# EAGLE library part HTRAM8 (library Transputers)
HTRAM size-8 Board INMOS Standard Transputer Boards for T9000 series components. Source: INMOS T9000 development Tools Preliminary Datasheets 1993. Arto Kyyhkynen, artoky@dlc.fi
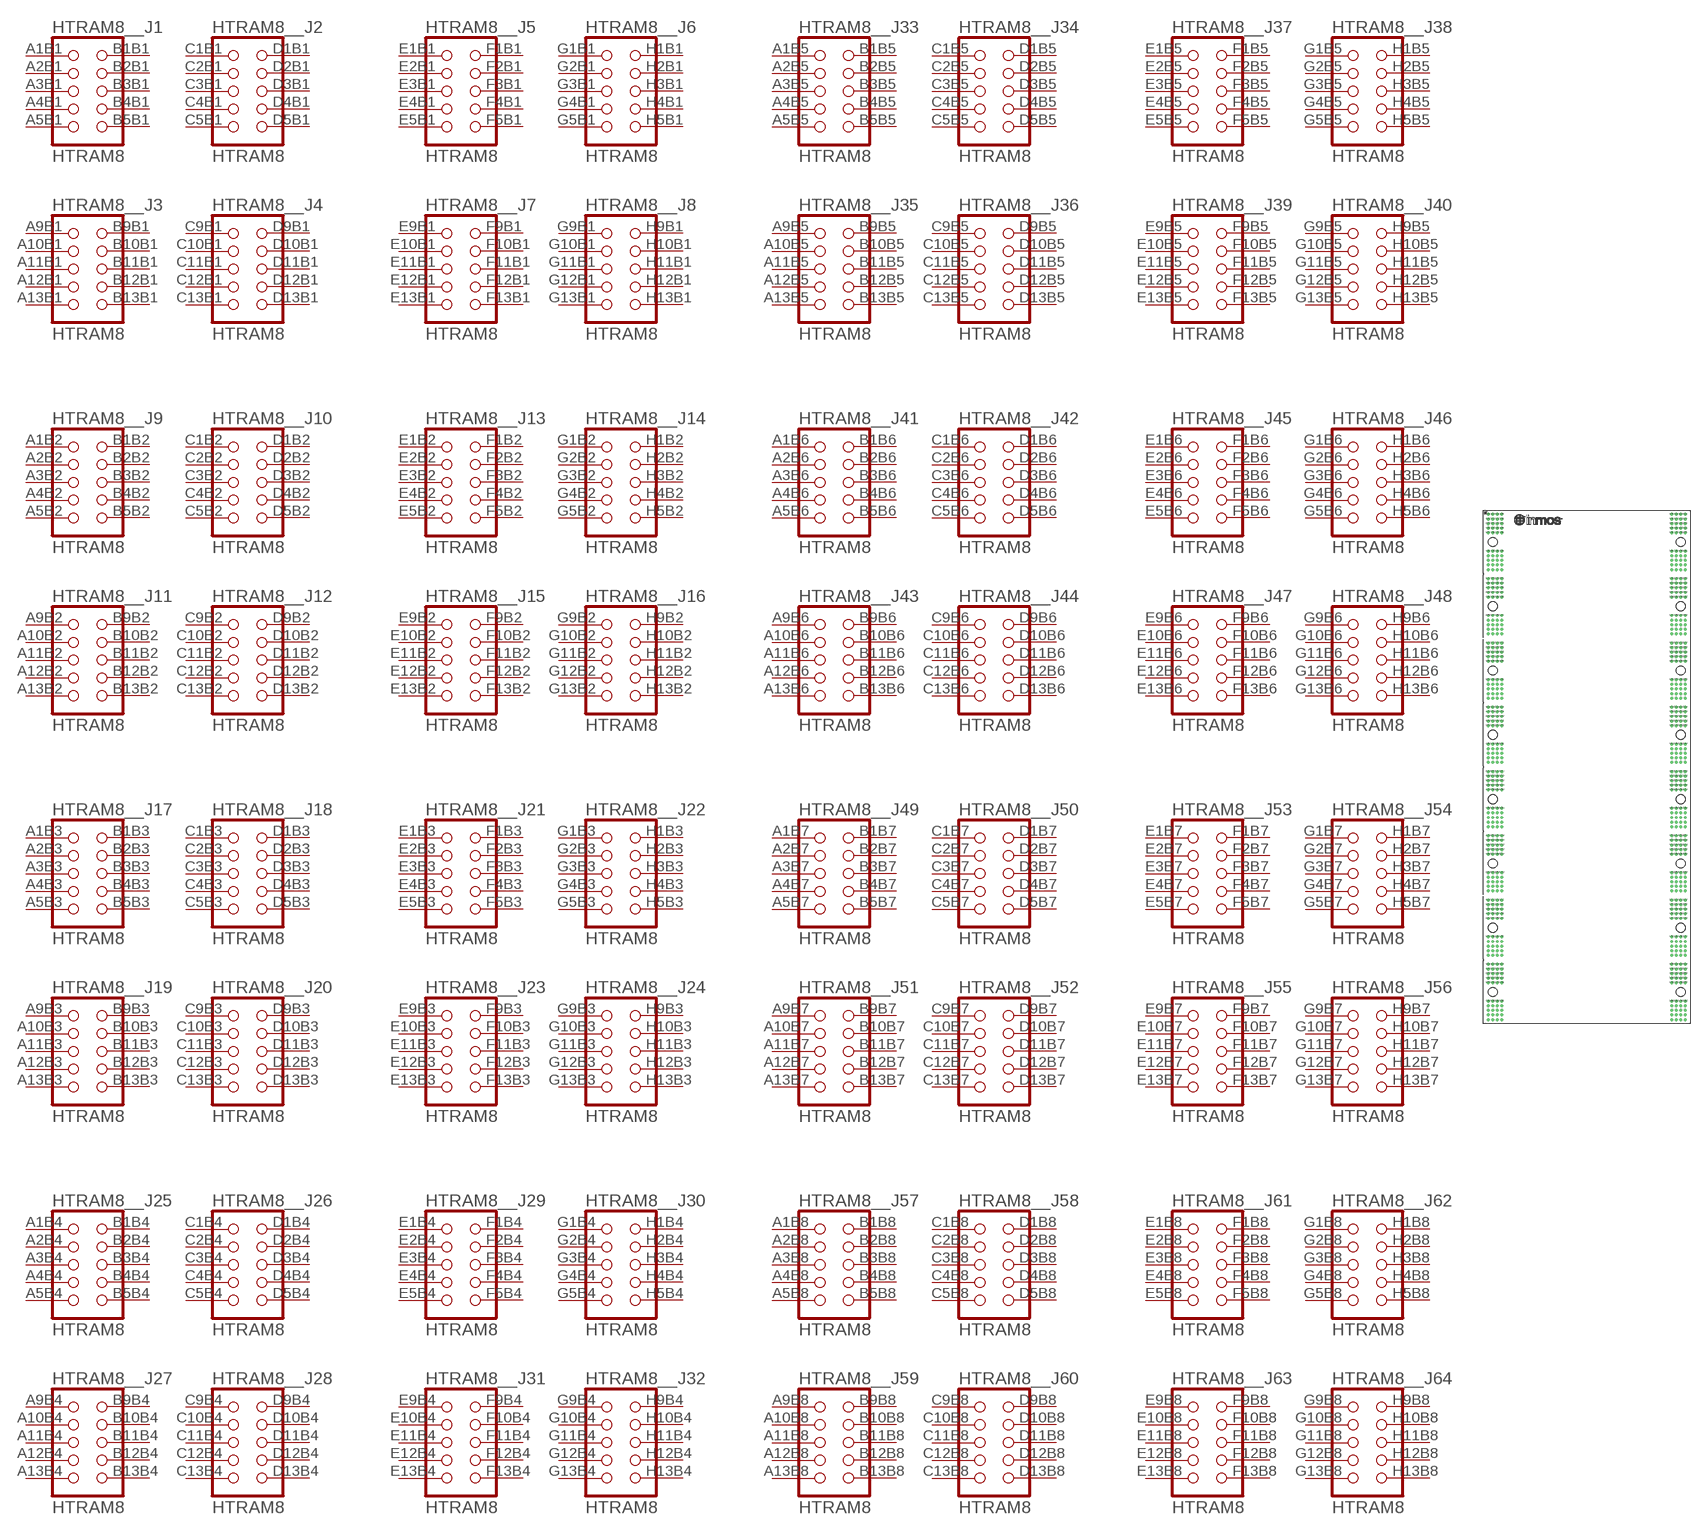
[diagram p22: symbol with the pads of HTRAM-SIZE8; footprint HTRAM-SIZE8]

Designator prefix HTRAM8_; gates _J1=HTRAM_TMM _J2=HTRAM_TMM _J3=HTRAM_TMM _J4=HTRAM_TMM _J5=HTRAM_TMM _J6=HTRAM_TMM _J7=HTRAM_TMM _J8=HTRAM_TMM _J9=HTRAM_TMM _J10=HTRAM_TMM _J11=HTRAM_TMM _J12=HTRAM_TMM _J13=HTRAM_TMM _J14=HTRAM_TMM _J15=HTRAM_TMM _J16=HTRAM_TMM _J17=HTRAM_TMM _J18=HTRAM_TMM _J19=HTRAM_TMM _J20=HTRAM_TMM _J21=HTRAM_TMM _J22=HTRAM_TMM _J23=HTRAM_TMM _J24=HTRAM_TMM _J25=HTRAM_TMM _J26=HTRAM_TMM _J27=HTRAM_TMM _J28=HTRAM_TMM _J29=HTRAM_TMM _J30=HTRAM_TMM _J31=HTRAM_TMM _J32=HTRAM_TMM _J33=HTRAM_TMM _J34=HTRAM_TMM _J35=HTRAM_TMM _J36=HTRAM_TMM _J37=HTRAM_TMM _J38=HTRAM_TMM _J39=HTRAM_TMM _J40=HTRAM_TMM _J41=HTRAM_TMM _J42=HTRAM_TMM _J43=HTRAM_TMM _J44=HTRAM_TMM _J45=HTRAM_TMM _J46=HTRAM_TMM _J47=HTRAM_TMM _J48=HTRAM_TMM _J49=HTRAM_TMM _J50=HTRAM_TMM _J51=HTRAM_TMM _J52=HTRAM_TMM _J53=HTRAM_TMM _J54=HTRAM_TMM _J55=HTRAM_TMM _J56=HTRAM_TMM _J57=HTRAM_TMM _J58=HTRAM_TMM _J59=HTRAM_TMM _J60=HTRAM_TMM _J61=HTRAM_TMM _J62=HTRAM_TMM _J63=HTRAM_TMM _J64=HTRAM_TMM

## HTRAM8  [HTRAM-SIZE8]
A1B1  _J1:1  pas
A1B2  _J9:1  pas
A1B3  _J17:1  pas
A1B4  _J25:1  pas
A1B5  _J33:1  pas
A1B6  _J41:1  pas
A1B7  _J49:1  pas
A1B8  _J57:1  pas
A2B1  _J1:3  pas
A2B2  _J9:3  pas
A2B3  _J17:3  pas
A2B4  _J25:3  pas
A2B5  _J33:3  pas
A2B6  _J41:3  pas
A2B7  _J49:3  pas
A2B8  _J57:3  pas
A3B1  _J1:5  pas
A3B2  _J9:5  pas
A3B3  _J17:5  pas
A3B4  _J25:5  pas
A3B5  _J33:5  pas
A3B6  _J41:5  pas
A3B7  _J49:5  pas
A3B8  _J57:5  pas
A4B1  _J1:7  pas
A4B2  _J9:7  pas
A4B3  _J17:7  pas
A4B4  _J25:7  pas
A4B5  _J33:7  pas
A4B6  _J41:7  pas
A4B7  _J49:7  pas
A4B8  _J57:7  pas
A5B1  _J1:9  pas
A5B2  _J9:9  pas
A5B3  _J17:9  pas
A5B4  _J25:9  pas
A5B5  _J33:9  pas
A5B6  _J41:9  pas
A5B7  _J49:9  pas
A5B8  _J57:9  pas
A9B1  _J3:1  pas
A9B2  _J11:1  pas
A9B3  _J19:1  pas
A9B4  _J27:1  pas
A9B5  _J35:1  pas
A9B6  _J43:1  pas
A9B7  _J51:1  pas
A9B8  _J59:1  pas
A10B1  _J3:3  pas
A10B2  _J11:3  pas
A10B3  _J19:3  pas
A10B4  _J27:3  pas
A10B5  _J35:3  pas
A10B6  _J43:3  pas
A10B7  _J51:3  pas
A10B8  _J59:3  pas
A11B1  _J3:5  pas
A11B2  _J11:5  pas
A11B3  _J19:5  pas
A11B4  _J27:5  pas
A11B5  _J35:5  pas
A11B6  _J43:5  pas
A11B7  _J51:5  pas
A11B8  _J59:5  pas
A12B1  _J3:7  pas
A12B2  _J11:7  pas
A12B3  _J19:7  pas
A12B4  _J27:7  pas
A12B5  _J35:7  pas
A12B6  _J43:7  pas
A12B7  _J51:7  pas
A12B8  _J59:7  pas
A13B1  _J3:9  pas
A13B2  _J11:9  pas
A13B3  _J19:9  pas
A13B4  _J27:9  pas
A13B5  _J35:9  pas
A13B6  _J43:9  pas
A13B7  _J51:9  pas
A13B8  _J59:9  pas
B1B1  _J1:2  pas
B1B2  _J9:2  pas
B1B3  _J17:2  pas
B1B4  _J25:2  pas
B1B5  _J33:2  pas
B1B6  _J41:2  pas
B1B7  _J49:2  pas
B1B8  _J57:2  pas
B2B1  _J1:4  pas
B2B2  _J9:4  pas
B2B3  _J17:4  pas
B2B4  _J25:4  pas
B2B5  _J33:4  pas
B2B6  _J41:4  pas
B2B7  _J49:4  pas
B2B8  _J57:4  pas
B3B1  _J1:6  pas
B3B2  _J9:6  pas
B3B3  _J17:6  pas
B3B4  _J25:6  pas
B3B5  _J33:6  pas
B3B6  _J41:6  pas
B3B7  _J49:6  pas
B3B8  _J57:6  pas
B4B1  _J1:8  pas
B4B2  _J9:8  pas
B4B3  _J17:8  pas
B4B4  _J25:8  pas
B4B5  _J33:8  pas
B4B6  _J41:8  pas
B4B7  _J49:8  pas
B4B8  _J57:8  pas
B5B1  _J1:10  pas
B5B2  _J9:10  pas
B5B3  _J17:10  pas
B5B4  _J25:10  pas
B5B5  _J33:10  pas
B5B6  _J41:10  pas
B5B7  _J49:10  pas
B5B8  _J57:10  pas
B9B1  _J3:2  pas
B9B2  _J11:2  pas
B9B3  _J19:2  pas
B9B4  _J27:2  pas
B9B5  _J35:2  pas
B9B6  _J43:2  pas
B9B7  _J51:2  pas
B9B8  _J59:2  pas
B10B1  _J3:4  pas
B10B2  _J11:4  pas
B10B3  _J19:4  pas
B10B4  _J27:4  pas
B10B5  _J35:4  pas
B10B6  _J43:4  pas
B10B7  _J51:4  pas
B10B8  _J59:4  pas
B11B1  _J3:6  pas
B11B2  _J11:6  pas
B11B3  _J19:6  pas
B11B4  _J27:6  pas
B11B5  _J35:6  pas
B11B6  _J43:6  pas
B11B7  _J51:6  pas
B11B8  _J59:6  pas
B12B1  _J3:8  pas
B12B2  _J11:8  pas
B12B3  _J19:8  pas
B12B4  _J27:8  pas
B12B5  _J35:8  pas
B12B6  _J43:8  pas
B12B7  _J51:8  pas
B12B8  _J59:8  pas
B13B1  _J3:10  pas
B13B2  _J11:10  pas
B13B3  _J19:10  pas
B13B4  _J27:10  pas
B13B5  _J35:10  pas
B13B6  _J43:10  pas
B13B7  _J51:10  pas
B13B8  _J59:10  pas
C1B1  _J2:1  pas
C1B2  _J10:1  pas
C1B3  _J18:1  pas
C1B4  _J26:1  pas
C1B5  _J34:1  pas
C1B6  _J42:1  pas
C1B7  _J50:1  pas
C1B8  _J58:1  pas
C2B1  _J2:3  pas
C2B2  _J10:3  pas
C2B3  _J18:3  pas
C2B4  _J26:3  pas
C2B5  _J34:3  pas
C2B6  _J42:3  pas
C2B7  _J50:3  pas
C2B8  _J58:3  pas
C3B1  _J2:5  pas
C3B2  _J10:5  pas
C3B3  _J18:5  pas
C3B4  _J26:5  pas
C3B5  _J34:5  pas
C3B6  _J42:5  pas
C3B7  _J50:5  pas
C3B8  _J58:5  pas
C4B1  _J2:7  pas
C4B2  _J10:7  pas
C4B3  _J18:7  pas
C4B4  _J26:7  pas
C4B5  _J34:7  pas
C4B6  _J42:7  pas
C4B7  _J50:7  pas
C4B8  _J58:7  pas
C5B1  _J2:9  pas
C5B2  _J10:9  pas
C5B3  _J18:9  pas
C5B4  _J26:9  pas
C5B5  _J34:9  pas
C5B6  _J42:9  pas
C5B7  _J50:9  pas
C5B8  _J58:9  pas
C9B1  _J4:1  pas
C9B2  _J12:1  pas
C9B3  _J20:1  pas
C9B4  _J28:1  pas
C9B5  _J36:1  pas
C9B6  _J44:1  pas
C9B7  _J52:1  pas
C9B8  _J60:1  pas
C10B1  _J4:3  pas
C10B2  _J12:3  pas
C10B3  _J20:3  pas
C10B4  _J28:3  pas
C10B5  _J36:3  pas
C10B6  _J44:3  pas
C10B7  _J52:3  pas
C10B8  _J60:3  pas
C11B1  _J4:5  pas
C11B2  _J12:5  pas
C11B3  _J20:5  pas
C11B4  _J28:5  pas
C11B5  _J36:5  pas
C11B6  _J44:5  pas
C11B7  _J52:5  pas
C11B8  _J60:5  pas
C12B1  _J4:7  pas
C12B2  _J12:7  pas
C12B3  _J20:7  pas
C12B4  _J28:7  pas
C12B5  _J36:7  pas
C12B6  _J44:7  pas
C12B7  _J52:7  pas
C12B8  _J60:7  pas
C13B1  _J4:9  pas
C13B2  _J12:9  pas
C13B3  _J20:9  pas
C13B4  _J28:9  pas
C13B5  _J36:9  pas
C13B6  _J44:9  pas
C13B7  _J52:9  pas
C13B8  _J60:9  pas
D1B1  _J2:2  pas
D1B2  _J10:2  pas
D1B3  _J18:2  pas
D1B4  _J26:2  pas
D1B5  _J34:2  pas
D1B6  _J42:2  pas
D1B7  _J50:2  pas
D1B8  _J58:2  pas
D2B1  _J2:4  pas
D2B2  _J10:4  pas
D2B3  _J18:4  pas
D2B4  _J26:4  pas
D2B5  _J34:4  pas
D2B6  _J42:4  pas
D2B7  _J50:4  pas
D2B8  _J58:4  pas
D3B1  _J2:6  pas
D3B2  _J10:6  pas
D3B3  _J18:6  pas
D3B4  _J26:6  pas
D3B5  _J34:6  pas
D3B6  _J42:6  pas
D3B7  _J50:6  pas
D3B8  _J58:6  pas
D4B1  _J2:8  pas
D4B2  _J10:8  pas
D4B3  _J18:8  pas
D4B4  _J26:8  pas
D4B5  _J34:8  pas
D4B6  _J42:8  pas
D4B7  _J50:8  pas
D4B8  _J58:8  pas
D5B1  _J2:10  pas
D5B2  _J10:10  pas
D5B3  _J18:10  pas
D5B4  _J26:10  pas
D5B5  _J34:10  pas
D5B6  _J42:10  pas
D5B7  _J50:10  pas
D5B8  _J58:10  pas
D9B1  _J4:2  pas
D9B2  _J12:2  pas
D9B3  _J20:2  pas
D9B4  _J28:2  pas
D9B5  _J36:2  pas
D9B6  _J44:2  pas
D9B7  _J52:2  pas
D9B8  _J60:2  pas
D10B1  _J4:4  pas
D10B2  _J12:4  pas
D10B3  _J20:4  pas
D10B4  _J28:4  pas
D10B5  _J36:4  pas
D10B6  _J44:4  pas
D10B7  _J52:4  pas
D10B8  _J60:4  pas
D11B1  _J4:6  pas
D11B2  _J12:6  pas
D11B3  _J20:6  pas
D11B4  _J28:6  pas
D11B5  _J36:6  pas
D11B6  _J44:6  pas
D11B7  _J52:6  pas
D11B8  _J60:6  pas
D12B1  _J4:8  pas
D12B2  _J12:8  pas
D12B3  _J20:8  pas
D12B4  _J28:8  pas
D12B5  _J36:8  pas
D12B6  _J44:8  pas
D12B7  _J52:8  pas
D12B8  _J60:8  pas
D13B1  _J4:10  pas
D13B2  _J12:10  pas
D13B3  _J20:10  pas
D13B4  _J28:10  pas
D13B5  _J36:10  pas
D13B6  _J44:10  pas
D13B7  _J52:10  pas
D13B8  _J60:10  pas
E1B1  _J5:1  pas
E1B2  _J13:1  pas
E1B3  _J21:1  pas
E1B4  _J29:1  pas
E1B5  _J37:1  pas
E1B6  _J45:1  pas
E1B7  _J53:1  pas
E1B8  _J61:1  pas
E2B1  _J5:3  pas
E2B2  _J13:3  pas
E2B3  _J21:3  pas
E2B4  _J29:3  pas
E2B5  _J37:3  pas
E2B6  _J45:3  pas
E2B7  _J53:3  pas
E2B8  _J61:3  pas
E3B1  _J5:5  pas
E3B2  _J13:5  pas
E3B3  _J21:5  pas
E3B4  _J29:5  pas
E3B5  _J37:5  pas
E3B6  _J45:5  pas
E3B7  _J53:5  pas
E3B8  _J61:5  pas
E4B1  _J5:7  pas
E4B2  _J13:7  pas
E4B3  _J21:7  pas
E4B4  _J29:7  pas
E4B5  _J37:7  pas
E4B6  _J45:7  pas
E4B7  _J53:7  pas
E4B8  _J61:7  pas
E5B1  _J5:9  pas
E5B2  _J13:9  pas
E5B3  _J21:9  pas
E5B4  _J29:9  pas
E5B5  _J37:9  pas
E5B6  _J45:9  pas
E5B7  _J53:9  pas
E5B8  _J61:9  pas
E9B1  _J7:1  pas
E9B2  _J15:1  pas
E9B3  _J23:1  pas
E9B4  _J31:1  pas
E9B5  _J39:1  pas
E9B6  _J47:1  pas
E9B7  _J55:1  pas
E9B8  _J63:1  pas
E10B1  _J7:3  pas
E10B2  _J15:3  pas
E10B3  _J23:3  pas
E10B4  _J31:3  pas
E10B5  _J39:3  pas
E10B6  _J47:3  pas
E10B7  _J55:3  pas
E10B8  _J63:3  pas
E11B1  _J7:5  pas
E11B2  _J15:5  pas
E11B3  _J23:5  pas
E11B4  _J31:5  pas
E11B5  _J39:5  pas
E11B6  _J47:5  pas
E11B7  _J55:5  pas
E11B8  _J63:5  pas
E12B1  _J7:7  pas
E12B2  _J15:7  pas
E12B3  _J23:7  pas
E12B4  _J31:7  pas
E12B5  _J39:7  pas
E12B6  _J47:7  pas
E12B7  _J55:7  pas
E12B8  _J63:7  pas
E13B1  _J7:9  pas
E13B2  _J15:9  pas
E13B3  _J23:9  pas
E13B4  _J31:9  pas
E13B5  _J39:9  pas
E13B6  _J47:9  pas
E13B7  _J55:9  pas
E13B8  _J63:9  pas
F1B1  _J5:2  pas
F1B2  _J13:2  pas
F1B3  _J21:2  pas
F1B4  _J29:2  pas
F1B5  _J37:2  pas
F1B6  _J45:2  pas
F1B7  _J53:2  pas
F1B8  _J61:2  pas
F2B1  _J5:4  pas
F2B2  _J13:4  pas
F2B3  _J21:4  pas
F2B4  _J29:4  pas
F2B5  _J37:4  pas
F2B6  _J45:4  pas
F2B7  _J53:4  pas
F2B8  _J61:4  pas
F3B1  _J5:6  pas
F3B2  _J13:6  pas
F3B3  _J21:6  pas
F3B4  _J29:6  pas
F3B5  _J37:6  pas
F3B6  _J45:6  pas
F3B7  _J53:6  pas
F3B8  _J61:6  pas
F4B1  _J5:8  pas
F4B2  _J13:8  pas
F4B3  _J21:8  pas
F4B4  _J29:8  pas
F4B5  _J37:8  pas
F4B6  _J45:8  pas
F4B7  _J53:8  pas
F4B8  _J61:8  pas
F5B1  _J5:10  pas
F5B2  _J13:10  pas
F5B3  _J21:10  pas
F5B4  _J29:10  pas
F5B5  _J37:10  pas
F5B6  _J45:10  pas
F5B7  _J53:10  pas
F5B8  _J61:10  pas
F9B1  _J7:2  pas
F9B2  _J15:2  pas
F9B3  _J23:2  pas
F9B4  _J31:2  pas
F9B5  _J39:2  pas
F9B6  _J47:2  pas
F9B7  _J55:2  pas
F9B8  _J63:2  pas
F10B1  _J7:4  pas
F10B2  _J15:4  pas
F10B3  _J23:4  pas
F10B4  _J31:4  pas
F10B5  _J39:4  pas
F10B6  _J47:4  pas
F10B7  _J55:4  pas
F10B8  _J63:4  pas
F11B1  _J7:6  pas
F11B2  _J15:6  pas
F11B3  _J23:6  pas
F11B4  _J31:6  pas
F11B5  _J39:6  pas
F11B6  _J47:6  pas
F11B7  _J55:6  pas
F11B8  _J63:6  pas
F12B1  _J7:8  pas
F12B2  _J15:8  pas
F12B3  _J23:8  pas
F12B4  _J31:8  pas
F12B5  _J39:8  pas
F12B6  _J47:8  pas
F12B7  _J55:8  pas
F12B8  _J63:8  pas
F13B1  _J7:10  pas
F13B2  _J15:10  pas
F13B3  _J23:10  pas
F13B4  _J31:10  pas
F13B5  _J39:10  pas
F13B6  _J47:10  pas
F13B7  _J55:10  pas
F13B8  _J63:10  pas
G1B1  _J6:1  pas
G1B2  _J14:1  pas
G1B3  _J22:1  pas
G1B4  _J30:1  pas
G1B5  _J38:1  pas
G1B6  _J46:1  pas
G1B7  _J54:1  pas
G1B8  _J62:1  pas
G2B1  _J6:3  pas
G2B2  _J14:3  pas
G2B3  _J22:3  pas
G2B4  _J30:3  pas
G2B5  _J38:3  pas
G2B6  _J46:3  pas
G2B7  _J54:3  pas
G2B8  _J62:3  pas
G3B1  _J6:5  pas
G3B2  _J14:5  pas
G3B3  _J22:5  pas
G3B4  _J30:5  pas
G3B5  _J38:5  pas
G3B6  _J46:5  pas
G3B7  _J54:5  pas
G3B8  _J62:5  pas
G4B1  _J6:7  pas
G4B2  _J14:7  pas
G4B3  _J22:7  pas
G4B4  _J30:7  pas
G4B5  _J38:7  pas
G4B6  _J46:7  pas
G4B7  _J54:7  pas
G4B8  _J62:7  pas
G5B1  _J6:9  pas
G5B2  _J14:9  pas
G5B3  _J22:9  pas
G5B4  _J30:9  pas
G5B5  _J38:9  pas
G5B6  _J46:9  pas
G5B7  _J54:9  pas
G5B8  _J62:9  pas
G9B1  _J8:1  pas
G9B2  _J16:1  pas
G9B3  _J24:1  pas
G9B4  _J32:1  pas
G9B5  _J40:1  pas
G9B6  _J48:1  pas
G9B7  _J56:1  pas
G9B8  _J64:1  pas
G10B1  _J8:3  pas
G10B2  _J16:3  pas
G10B3  _J24:3  pas
G10B4  _J32:3  pas
G10B5  _J40:3  pas
G10B6  _J48:3  pas
G10B7  _J56:3  pas
G10B8  _J64:3  pas
G11B1  _J8:5  pas
G11B2  _J16:5  pas
G11B3  _J24:5  pas
G11B4  _J32:5  pas
G11B5  _J40:5  pas
G11B6  _J48:5  pas
G11B7  _J56:5  pas
G11B8  _J64:5  pas
G12B1  _J8:7  pas
G12B2  _J16:7  pas
G12B3  _J24:7  pas
G12B4  _J32:7  pas
G12B5  _J40:7  pas
G12B6  _J48:7  pas
G12B7  _J56:7  pas
G12B8  _J64:7  pas
G13B1  _J8:9  pas
G13B2  _J16:9  pas
G13B3  _J24:9  pas
G13B4  _J32:9  pas
G13B5  _J40:9  pas
G13B6  _J48:9  pas
G13B7  _J56:9  pas
G13B8  _J64:9  pas
H1B1  _J6:2  pas
H1B2  _J14:2  pas
H1B3  _J22:2  pas
H1B4  _J30:2  pas
H1B5  _J38:2  pas
H1B6  _J46:2  pas
H1B7  _J54:2  pas
H1B8  _J62:2  pas
H2B1  _J6:4  pas
H2B2  _J14:4  pas
H2B3  _J22:4  pas
H2B4  _J30:4  pas
H2B5  _J38:4  pas
H2B6  _J46:4  pas
H2B7  _J54:4  pas
H2B8  _J62:4  pas
H3B1  _J6:6  pas
H3B2  _J14:6  pas
H3B3  _J22:6  pas
H3B4  _J30:6  pas
H3B5  _J38:6  pas
H3B6  _J46:6  pas
H3B7  _J54:6  pas
H3B8  _J62:6  pas
H4B1  _J6:8  pas
H4B2  _J14:8  pas
H4B3  _J22:8  pas
H4B4  _J30:8  pas
H4B5  _J38:8  pas
H4B6  _J46:8  pas
H4B7  _J54:8  pas
H4B8  _J62:8  pas
H5B1  _J6:10  pas
H5B2  _J14:10  pas
H5B3  _J22:10  pas
H5B4  _J30:10  pas
H5B5  _J38:10  pas
H5B6  _J46:10  pas
H5B7  _J54:10  pas
H5B8  _J62:10  pas
H9B1  _J8:2  pas
H9B2  _J16:2  pas
H9B3  _J24:2  pas
H9B4  _J32:2  pas
H9B5  _J40:2  pas
H9B6  _J48:2  pas
H9B7  _J56:2  pas
H9B8  _J64:2  pas
H10B1  _J8:4  pas
H10B2  _J16:4  pas
H10B3  _J24:4  pas
H10B4  _J32:4  pas
H10B5  _J40:4  pas
H10B6  _J48:4  pas
H10B7  _J56:4  pas
H10B8  _J64:4  pas
H11B1  _J8:6  pas
H11B2  _J16:6  pas
H11B3  _J24:6  pas
H11B4  _J32:6  pas
H11B5  _J40:6  pas
H11B6  _J48:6  pas
H11B7  _J56:6  pas
H11B8  _J64:6  pas
H12B1  _J8:8  pas
H12B2  _J16:8  pas
H12B3  _J24:8  pas
H12B4  _J32:8  pas
H12B5  _J40:8  pas
H12B6  _J48:8  pas
H12B7  _J56:8  pas
H12B8  _J64:8  pas
H13B1  _J8:10  pas
H13B2  _J16:10  pas
H13B3  _J24:10  pas
H13B4  _J32:10  pas
H13B5  _J40:10  pas
H13B6  _J48:10  pas
H13B7  _J56:10  pas
H13B8  _J64:10  pas

## Footprint HTRAM-SIZE8 (pad centres in mm)
HTRAM size-8
drill 0.777 round: A1B1 0,0; A1B2 0,-28; A1B3 0,-56; A1B4 0,-84; A1B5 0,-112; A1B6 0,-140; A1B7 0,-168; A1B8 0,-196; A2B1 0,-2; A2B2 0,-30; A2B3 0,-58; A2B4 0,-86; A2B5 0,-114; A2B6 0,-142; A2B7 0,-170; A2B8 0,-198; A3B1 0,-4; A3B2 0,-32; A3B3 0,-60; A3B4 0,-88; A3B5 0,-116; A3B6 0,-144; A3B7 0,-172; A3B8 0,-200; A4B1 0,-6; A4B2 0,-34; A4B3 0,-62; A4B4 0,-90; A4B5 0,-118; A4B6 0,-146; A4B7 0,-174; A4B8 0,-202; A5B1 0,-8; A5B2 0,-36; A5B3 0,-64; A5B4 0,-92; A5B5 0,-120; A5B6 0,-148; A5B7 0,-176; A5B8 0,-204; A9B1 0,-16; A9B2 0,-44; A9B3 0,-72; A9B4 0,-100; A9B5 0,-128; A9B6 0,-156; A9B7 0,-184; A9B8 0,-212; A10B1 0,-18; A10B2 0,-46; A10B3 0,-74; A10B4 0,-102; A10B5 0,-130; A10B6 0,-158; A10B7 0,-186; A10B8 0,-214; A11B1 0,-20; A11B2 0,-48; A11B3 0,-76; A11B4 0,-104; A11B5 0,-132; A11B6 0,-160; A11B7 0,-188; A11B8 0,-216; A12B1 0,-22; A12B2 0,-50; A12B3 0,-78; A12B4 0,-106; A12B5 0,-134; A12B6 0,-162; A12B7 0,-190; A12B8 0,-218; A13B1 0,-24; A13B2 0,-52; A13B3 0,-80; A13B4 0,-108; A13B5 0,-136; A13B6 0,-164; A13B7 0,-192; A13B8 0,-220; B1B1 2,0; B1B2 2,-28; B1B3 2,-56; B1B4 2,-84; B1B5 2,-112; B1B6 2,-140; B1B7 2,-168; B1B8 2,-196; B2B1 2,-2; B2B2 2,-30; B2B3 2,-58; B2B4 2,-86; B2B5 2,-114; B2B6 2,-142; B2B7 2,-170; B2B8 2,-198; B3B1 2,-4; B3B2 2,-32; B3B3 2,-60; B3B4 2,-88; B3B5 2,-116; B3B6 2,-144; B3B7 2,-172; B3B8 2,-200; B4B1 2,-6; B4B2 2,-34; B4B3 2,-62; B4B4 2,-90; B4B5 2,-118; B4B6 2,-146; B4B7 2,-174; B4B8 2,-202; B5B1 2,-8; B5B2 2,-36; B5B3 2,-64; B5B4 2,-92; B5B5 2,-120; B5B6 2,-148; B5B7 2,-176; B5B8 2,-204; B9B1 2,-16; B9B2 2,-44; B9B3 2,-72; B9B4 2,-100; B9B5 2,-128; B9B6 2,-156; B9B7 2,-184; B9B8 2,-212; B10B1 2,-18; B10B2 2,-46; B10B3 2,-74; B10B4 2,-102; B10B5 2,-130; B10B6 2,-158; B10B7 2,-186; B10B8 2,-214; B11B1 2,-20; B11B2 2,-48; B11B3 2,-76; B11B4 2,-104; B11B5 2,-132; B11B6 2,-160; B11B7 2,-188; B11B8 2,-216; B12B1 2,-22; B12B2 2,-50; B12B3 2,-78; B12B4 2,-106; B12B5 2,-134; B12B6 2,-162; B12B7 2,-190; B12B8 2,-218; B13B1 2,-24; B13B2 2,-52; B13B3 2,-80; B13B4 2,-108; B13B5 2,-136; B13B6 2,-164; B13B7 2,-192; B13B8 2,-220; C1B1 4,0; C1B2 4,-28; C1B3 4,-56; C1B4 4,-84; C1B5 4,-112; C1B6 4,-140; C1B7 4,-168; C1B8 4,-196; C2B1 4,-2; C2B2 4,-30; C2B3 4,-58; C2B4 4,-86; C2B5 4,-114; C2B6 4,-142; C2B7 4,-170; C2B8 4,-198; C3B1 4,-4; C3B2 4,-32; C3B3 4,-60; C3B4 4,-88; C3B5 4,-116; C3B6 4,-144; C3B7 4,-172; C3B8 4,-200; C4B1 4,-6; C4B2 4,-34; C4B3 4,-62; C4B4 4,-90; C4B5 4,-118; C4B6 4,-146; C4B7 4,-174; C4B8 4,-202; C5B1 4,-8; C5B2 4,-36; C5B3 4,-64; C5B4 4,-92; C5B5 4,-120; C5B6 4,-148; C5B7 4,-176; C5B8 4,-204; C9B1 4,-16; C9B2 4,-44; C9B3 4,-72; C9B4 4,-100; C9B5 4,-128; C9B6 4,-156; C9B7 4,-184; C9B8 4,-212; C10B1 4,-18; C10B2 4,-46; C10B3 4,-74; C10B4 4,-102; C10B5 4,-130; C10B6 4,-158; C10B7 4,-186; C10B8 4,-214; C11B1 4,-20; C11B2 4,-48; C11B3 4,-76; C11B4 4,-104; C11B5 4,-132; C11B6 4,-160; C11B7 4,-188; C11B8 4,-216; C12B1 4,-22; C12B2 4,-50; C12B3 4,-78; C12B4 4,-106; C12B5 4,-134; C12B6 4,-162; C12B7 4,-190; C12B8 4,-218; C13B1 4,-24; C13B2 4,-52; C13B3 4,-80; C13B4 4,-108; C13B5 4,-136; C13B6 4,-164; C13B7 4,-192; C13B8 4,-220; D1B1 6,0; D1B2 6,-28; D1B3 6,-56; D1B4 6,-84; D1B5 6,-112; D1B6 6,-140; D1B7 6,-168; D1B8 6,-196; D2B1 6,-2; D2B2 6,-30; D2B3 6,-58; D2B4 6,-86; D2B5 6,-114; D2B6 6,-142; D2B7 6,-170; D2B8 6,-198; D3B1 6,-4; D3B2 6,-32; D3B3 6,-60; D3B4 6,-88; D3B5 6,-116; D3B6 6,-144; D3B7 6,-172; D3B8 6,-200; D4B1 6,-6; D4B2 6,-34; D4B3 6,-62; D4B4 6,-90; D4B5 6,-118; D4B6 6,-146; D4B7 6,-174; D4B8 6,-202; D5B1 6,-8; D5B2 6,-36; D5B3 6,-64; D5B4 6,-92; D5B5 6,-120; D5B6 6,-148; D5B7 6,-176; D5B8 6,-204; D9B1 6,-16; D9B2 6,-44; D9B3 6,-72; D9B4 6,-100; D9B5 6,-128; D9B6 6,-156; D9B7 6,-184; D9B8 6,-212; D10B1 6,-18; D10B2 6,-46; D10B3 6,-74; D10B4 6,-102; D10B5 6,-130; D10B6 6,-158; D10B7 6,-186; D10B8 6,-214; D11B1 6,-20; D11B2 6,-48; D11B3 6,-76; D11B4 6,-104; D11B5 6,-132; D11B6 6,-160; D11B7 6,-188; D11B8 6,-216; D12B1 6,-22; D12B2 6,-50; D12B3 6,-78; D12B4 6,-106; D12B5 6,-134; D12B6 6,-162; D12B7 6,-190; D12B8 6,-218; D13B1 6,-24; D13B2 6,-52; D13B3 6,-80; D13B4 6,-108; D13B5 6,-136; D13B6 6,-164; D13B7 6,-192; D13B8 6,-220; E1B1 80,0; E1B2 80,-28; E1B3 80,-56; E1B4 80,-84; E1B5 80,-112; E1B6 80,-140; E1B7 80,-168; E1B8 80,-196; E2B1 80,-2; E2B2 80,-30; E2B3 80,-58; E2B4 80,-86; E2B5 80,-114; E2B6 80,-142; E2B7 80,-170; E2B8 80,-198; E3B1 80,-4; E3B2 80,-32; E3B3 80,-60; E3B4 80,-88; E3B5 80,-116; E3B6 80,-144; E3B7 80,-172; E3B8 80,-200; E4B1 80,-6; E4B2 80,-34; E4B3 80,-62; E4B4 80,-90; E4B5 80,-118; E4B6 80,-146; E4B7 80,-174; E4B8 80,-202; E5B1 80,-8; E5B2 80,-36; E5B3 80,-64; E5B4 80,-92; E5B5 80,-120; E5B6 80,-148; E5B7 80,-176; E5B8 80,-204; E9B1 80,-16; E9B2 80,-44; E9B3 80,-72; E9B4 80,-100; E9B5 80,-128; E9B6 80,-156; E9B7 80,-184; E9B8 80,-212; E10B1 80,-18; E10B2 80,-46; E10B3 80,-74; E10B4 80,-102; E10B5 80,-130; E10B6 80,-158; E10B7 80,-186; E10B8 80,-214; E11B1 80,-20; E11B2 80,-48; E11B3 80,-76; E11B4 80,-104; E11B5 80,-132; E11B6 80,-160; E11B7 80,-188; E11B8 80,-216; E12B1 80,-22; E12B2 80,-50; E12B3 80,-78; E12B4 80,-106; E12B5 80,-134; E12B6 80,-162; E12B7 80,-190; E12B8 80,-218; E13B1 80,-24; E13B2 80,-52; E13B3 80,-80; E13B4 80,-108; E13B5 80,-136; E13B6 80,-164; E13B7 80,-192; E13B8 80,-220; F1B1 82,0; F1B2 82,-28; F1B3 82,-56; F1B4 82,-84; F1B5 82,-112; F1B6 82,-140; F1B7 82,-168; F1B8 82,-196; F2B1 82,-2; F2B2 82,-30; F2B3 82,-58; F2B4 82,-86; F2B5 82,-114; F2B6 82,-142; F2B7 82,-170; F2B8 82,-198; F3B1 82,-4; F3B2 82,-32; F3B3 82,-60; F3B4 82,-88; F3B5 82,-116; F3B6 82,-144; F3B7 82,-172; F3B8 82,-200; F4B1 82,-6; F4B2 82,-34; F4B3 82,-62; F4B4 82,-90; F4B5 82,-118; F4B6 82,-146; F4B7 82,-174; F4B8 82,-202; F5B1 82,-8; F5B2 82,-36; F5B3 82,-64; F5B4 82,-92; F5B5 82,-120; F5B6 82,-148; F5B7 82,-176; F5B8 82,-204; F9B1 82,-16; F9B2 82,-44; F9B3 82,-72; F9B4 82,-100; F9B5 82,-128; F9B6 82,-156; F9B7 82,-184; F9B8 82,-212; F10B1 82,-18; F10B2 82,-46; F10B3 82,-74; F10B4 82,-102; F10B5 82,-130; F10B6 82,-158; F10B7 82,-186; F10B8 82,-214; F11B1 82,-20; F11B2 82,-48; F11B3 82,-76; F11B4 82,-104; F11B5 82,-132; F11B6 82,-160; F11B7 82,-188; F11B8 82,-216; F12B1 82,-22; F12B2 82,-50; F12B3 82,-78; F12B4 82,-106; F12B5 82,-134; F12B6 82,-162; F12B7 82,-190; F12B8 82,-218; F13B1 82,-24; F13B2 82,-52; F13B3 82,-80; F13B4 82,-108; F13B5 82,-136; F13B6 82,-164; F13B7 82,-192; F13B8 82,-220; G1B1 84,0; G1B2 84,-28; G1B3 84,-56; G1B4 84,-84; G1B5 84,-112; G1B6 84,-140; G1B7 84,-168; G1B8 84,-196; G2B1 84,-2; G2B2 84,-30; G2B3 84,-58; G2B4 84,-86; G2B5 84,-114; G2B6 84,-142; G2B7 84,-170; G2B8 84,-198; G3B1 84,-4; G3B2 84,-32; G3B3 84,-60; G3B4 84,-88; G3B5 84,-116; G3B6 84,-144; G3B7 84,-172; G3B8 84,-200; G4B1 84,-6; G4B2 84,-34; G4B3 84,-62; G4B4 84,-90; G4B5 84,-118; G4B6 84,-146; G4B7 84,-174; G4B8 84,-202; G5B1 84,-8; G5B2 84,-36; G5B3 84,-64; G5B4 84,-92; G5B5 84,-120; G5B6 84,-148; G5B7 84,-176; G5B8 84,-204; G9B1 84,-16; G9B2 84,-44; G9B3 84,-72; G9B4 84,-100; G9B5 84,-128; G9B6 84,-156; G9B7 84,-184; G9B8 84,-212; G10B1 84,-18; G10B2 84,-46; G10B3 84,-74; G10B4 84,-102; G10B5 84,-130; G10B6 84,-158; G10B7 84,-186; G10B8 84,-214; G11B1 84,-20; G11B2 84,-48; G11B3 84,-76; G11B4 84,-104; G11B5 84,-132; G11B6 84,-160; G11B7 84,-188; G11B8 84,-216; G12B1 84,-22; G12B2 84,-50; G12B3 84,-78; G12B4 84,-106; G12B5 84,-134; G12B6 84,-162; G12B7 84,-190; G12B8 84,-218; G13B1 84,-24; G13B2 84,-52; G13B3 84,-80; G13B4 84,-108; G13B5 84,-136; G13B6 84,-164; G13B7 84,-192; G13B8 84,-220; H1B1 86,0; H1B2 86,-28; H1B3 86,-56; H1B4 86,-84; H1B5 86,-112; H1B6 86,-140; H1B7 86,-168; H1B8 86,-196; H2B1 86,-2; H2B2 86,-30; H2B3 86,-58; H2B4 86,-86; H2B5 86,-114; H2B6 86,-142; H2B7 86,-170; H2B8 86,-198; H3B1 86,-4; H3B2 86,-32; H3B3 86,-60; H3B4 86,-88; H3B5 86,-116; H3B6 86,-144; H3B7 86,-172; H3B8 86,-200; H4B1 86,-6; H4B2 86,-34; H4B3 86,-62; H4B4 86,-90; H4B5 86,-118; H4B6 86,-146; H4B7 86,-174; H4B8 86,-202; H5B1 86,-8; H5B2 86,-36; H5B3 86,-64; H5B4 86,-92; H5B5 86,-120; H5B6 86,-148; H5B7 86,-176; H5B8 86,-204; H9B1 86,-16; H9B2 86,-44; H9B3 86,-72; H9B4 86,-100; H9B5 86,-128; H9B6 86,-156; H9B7 86,-184; H9B8 86,-212; H10B1 86,-18; H10B2 86,-46; H10B3 86,-74; H10B4 86,-102; H10B5 86,-130; H10B6 86,-158; H10B7 86,-186; H10B8 86,-214; H11B1 86,-20; H11B2 86,-48; H11B3 86,-76; H11B4 86,-104; H11B5 86,-132; H11B6 86,-160; H11B7 86,-188; H11B8 86,-216; H12B1 86,-22; H12B2 86,-50; H12B3 86,-78; H12B4 86,-106; H12B5 86,-134; H12B6 86,-162; H12B7 86,-190; H12B8 86,-218; H13B1 86,-24; H13B2 86,-52; H13B3 86,-80; H13B4 86,-108; H13B5 86,-136; H13B6 86,-164; H13B7 86,-192; H13B8 86,-220
hole 3.85 at 2,-12
hole 3.85 at 84,-12
hole 3.85 at 2,-40
hole 3.85 at 84,-40
hole 3.85 at 2,-68
hole 3.85 at 84,-68
hole 3.85 at 2,-96
hole 3.85 at 84,-96
hole 3.85 at 2,-124
hole 3.85 at 84,-124
hole 3.85 at 2,-152
hole 3.85 at 84,-152
hole 3.85 at 2,-180
hole 3.85 at 84,-180
hole 3.85 at 2,-208
hole 3.85 at 84,-208